# EAGLE library part 74LVT16245 (library xess)
16-Bit Dual-Supply Bus Transceiver with Configurable Voltage Translation and 3-State Outputs
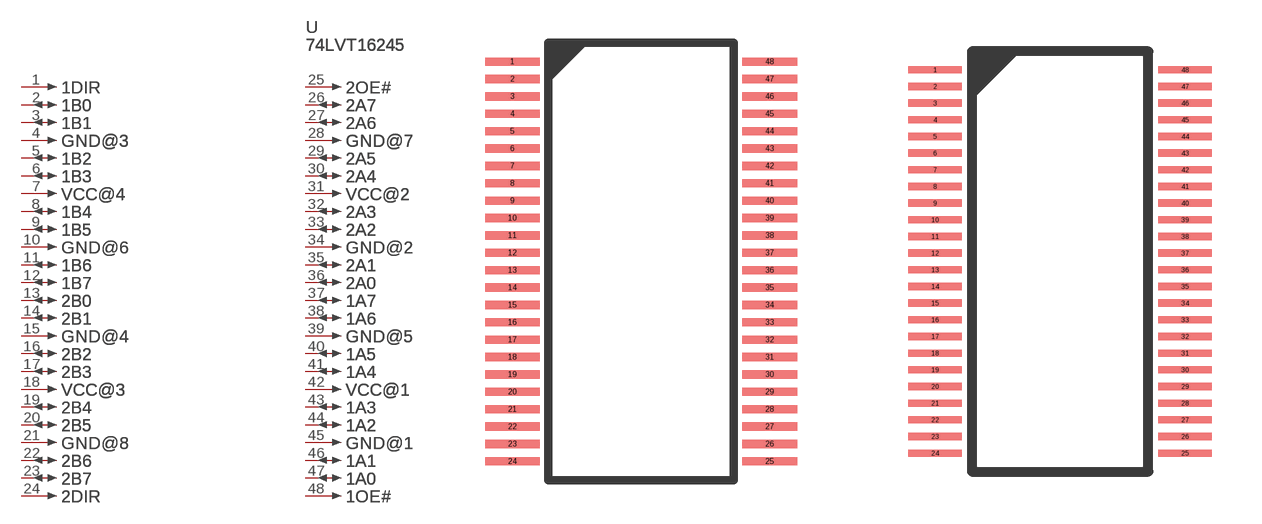
[diagram p137: symbol with the pads of NXP-SSOP48; footprints NXP-SSOP48, NXP-TSSOP48]

Designator prefix U; gates PART=PV_GATE 1DIR=PIN_GATE_IN 1B0=PIN_GATE_IO 1B1=PIN_GATE_IO GND@3=PIN_GATE_IN 1B2=PIN_GATE_IO 1B3=PIN_GATE_IO VCC@4=PIN_GATE_IN 1B4=PIN_GATE_IO 1B5=PIN_GATE_IO GND@6=PIN_GATE_IN 1B6=PIN_GATE_IO 1B7=PIN_GATE_IO 2B0=PIN_GATE_IO 2B1=PIN_GATE_IO GND@4=PIN_GATE_IN 2B2=PIN_GATE_IO 2B3=PIN_GATE_IO VCC@3=PIN_GATE_IN 2B4=PIN_GATE_IO 2B5=PIN_GATE_IO GND@8=PIN_GATE_IN 2B6=PIN_GATE_IO 2B7=PIN_GATE_IO 2DIR=PIN_GATE_IN 2OE#=PIN_GATE_IN 2A7=PIN_GATE_IO 2A6=PIN_GATE_IO GND@7=PIN_GATE_IN 2A5=PIN_GATE_IO 2A4=PIN_GATE_IO VCC@2=PIN_GATE_IN 2A3=PIN_GATE_IO 2A2=PIN_GATE_IO GND@2=PIN_GATE_IN 2A1=PIN_GATE_IO 2A0=PIN_GATE_IO 1A7=PIN_GATE_IO 1A6=PIN_GATE_IO GND@5=PIN_GATE_IN 1A5=PIN_GATE_IO 1A4=PIN_GATE_IO VCC@1=PIN_GATE_IN 1A3=PIN_GATE_IO 1A2=PIN_GATE_IO GND@1=PIN_GATE_IN 1A1=PIN_GATE_IO 1A0=PIN_GATE_IO 1OE#=PIN_GATE_IN

## 74LVT16245-DL  [NXP-SSOP48]
1  1DIR:1  in
2  1B0:1
3  1B1:1
4  GND@3:1  in
5  1B2:1
6  1B3:1
7  VCC@4:1  in
8  1B4:1
9  1B5:1
10  GND@6:1  in
11  1B6:1
12  1B7:1
13  2B0:1
14  2B1:1
15  GND@4:1  in
16  2B2:1
17  2B3:1
18  VCC@3:1  in
19  2B4:1
20  2B5:1
21  GND@8:1  in
22  2B6:1
23  2B7:1
24  2DIR:1  in
25  2OE#:1  in
26  2A7:1
27  2A6:1
28  GND@7:1  in
29  2A5:1
30  2A4:1
31  VCC@2:1  in
32  2A3:1
33  2A2:1
34  GND@2:1  in
35  2A1:1
36  2A0:1
37  1A7:1
38  1A6:1
39  GND@5:1  in
40  1A5:1
41  1A4:1
42  VCC@1:1  in
43  1A3:1
44  1A2:1
45  GND@1:1  in
46  1A1:1
47  1A0:1
48  1OE#:1  in

## 74LVT16245-DGG  [NXP-TSSOP48]
Pads as for NXP-SSOP48

## Footprint NXP-SSOP48 (pad centres in mm)
48-pin plastic shrink small outline package
smd 2 x 0.3: 1 0,0; 2 0,-0.635; 3 0,-1.27; 4 0,-1.905; 5 0,-2.54; 6 0,-3.175; 7 0,-3.81; 8 0,-4.445; 9 0,-5.08; 10 0,-5.715; 11 0,-6.35; 12 0,-6.985; 13 0,-7.62; 14 0,-8.255; 15 0,-8.89; 16 0,-9.525; 17 0,-10.16; 18 0,-10.795; 19 0,-11.43; 20 0,-12.065; 21 0,-12.7; 22 0,-13.335; 23 0,-13.97; 24 0,-14.605; 25 9.4,-14.605; 26 9.4,-13.97; 27 9.4,-13.335; 28 9.4,-12.7; 29 9.4,-12.065; 30 9.4,-11.43; 31 9.4,-10.795; 32 9.4,-10.16; 33 9.4,-9.525; 34 9.4,-8.89; 35 9.4,-8.255; 36 9.4,-7.62; 37 9.4,-6.985; 38 9.4,-6.35; 39 9.4,-5.715; 40 9.4,-5.08; 41 9.4,-4.445; 42 9.4,-3.81; 43 9.4,-3.175; 44 9.4,-2.54; 45 9.4,-1.905; 46 9.4,-1.27; 47 9.4,-0.635; 48 9.4,0

## Footprint NXP-TSSOP48 (pad centres in mm)
48-pin plastic thin shrink small outline package
smd 1.6 x 0.22: 1 0,0; 2 0,-0.5; 3 0,-1; 4 0,-1.5; 5 0,-2; 6 0,-2.5; 7 0,-3; 8 0,-3.5; 9 0,-4; 10 0,-4.5; 11 0,-5; 12 0,-5.5; 13 0,-6; 14 0,-6.5; 15 0,-7; 16 0,-7.5; 17 0,-8; 18 0,-8.5; 19 0,-9; 20 0,-9.5; 21 0,-10; 22 0,-10.5; 23 0,-11; 24 0,-11.5; 25 7.5,-11.5; 26 7.5,-11; 27 7.5,-10.5; 28 7.5,-10; 29 7.5,-9.5; 30 7.5,-9; 31 7.5,-8.5; 32 7.5,-8; 33 7.5,-7.5; 34 7.5,-7; 35 7.5,-6.5; 36 7.5,-6; 37 7.5,-5.5; 38 7.5,-5; 39 7.5,-4.5; 40 7.5,-4; 41 7.5,-3.5; 42 7.5,-3; 43 7.5,-2.5; 44 7.5,-2; 45 7.5,-1.5; 46 7.5,-1; 47 7.5,-0.5; 48 7.5,0